# Altium schematic symbol library Schlib1.SchLib: 3 symbols
Pins are listed as number, name and electrical type; pins without a type are passive.

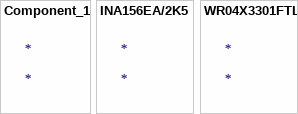
[diagram p0: symbols Component_1 to WR04X3301FTL]

## Component_1
designator *

## INA156EA/2K5
designator *
Instrumentation Amplifier, 1 Func, 9000uV Offset-Max, 0.55MHz Band Width, CMOS, PDSO8; Manufacturer: Texas Instruments; Manufacturer Part Number: INA156EA/2K5; Package Body Material: Plastic; Average Bias Current-Max (IIB): 10pA; Bandwidth (3dB)-Nom: 550kHz; Common Mode Rejection Ratio-Min: 65dB; Input Offset Voltage-Max: 9mV; Non-linearity-Max: 0.015%; Channels: 1; Package Equivalence Code: TSSOP8,.19; Power Supplies: 3/5V; Slew Rate: 6.5V/µs; Max Supply Current: 3.2mA; Supply Voltage Limit-Max: 7.5V; Nominal Supply Voltage: 5V; Voltage Gain-Max: 50; Voltage Gain-Min: 10; Qualification Status: Not Qualified; Supplier: Digi-Key; Supplier Part Number: INA156EA/2K5-ND; RoHS: Yes; Category: Amplifiers - Op Amps, Buffer, Instrumentation; Pricing: 2500=1.48972, 5000=1.43372 (USD); Case/Package: TSSOP; Pins: 8; Package Shape: Square; Terminal Finish: Nickel; Min Operating Temperature: -55°C; Max Operating Temperature: 125°C; JESD-609 Code: e4; Amplifier Type: INSTRUMENTATION AMPLIFIER; Input Offset Current-Max (IIO): 10pA; JESD-30 Code: S-PDSO-G8; Moisture Sensitivity Level: 2; Package Style: SMALL OUTLINE, THIN PROFILE, SHRINK PITCHMeter; Peak Reflow Temperature (Cel): 260°C; Surface Mount: Yes; Technology: CMOS; Terminal Form: Gull Wing; Terminal Position: DUAL; Voltage Gain-Nom: 10; Length: 3mm; Width: 3mm; Height - Seated (Max): 1.1mm; Terminal Pitch: 0.65mm; Temperature Grade: MILITARY; Reach SVHC Compliant: Yes; RoHS Compliant: Yes; ComponentLink1URL: https://www.ti.com:443/lit/ds/symlink/ina156.pdf?src-supplier=IHS+Markit; ComponentLink1Description: https://www.ti.com:443/lit/ds/symlink/ina156.pdf?src-supplier=IHS+Markit; ComponentLink2URL: https://datasheet.ciiva.com/1814/ina156-1814818.pdf?src-supplier=Digi-Key; ComponentLink2Description: https://datasheet.ciiva.com/1814/ina156-1814818.pdf?src-supplier=Digi-Key; ComponentLink3URL: https://datasheet.ciiva.com/2977/ina156-2977894.pdf?src-supplier=Avnet; ComponentLink3Description: https://datasheet.ciiva.com/2977/ina156-2977894.pdf?src-supplier=Avnet

## WR04X3301FTL
designator *
Fixed Resistor, Metal Glaze/thick Film, 0.0625W, 3300ohm, 50V, 1% +/-Tol, 100ppm/Cel, Surface Mount, 0402; Manufacturer: Walsin Technologies; Manufacturer Part Number: WR04X3301FTL; Additional Feature: LASER TRIMMABLE; Power: 62.5mW; Rated Temperature: 70°C; Value: 3.3kR; Temperature Coefficient: 100ppm/°C; Package Height: 0.35mm; Package Length: 1mm; Package Width: 0.5mm; Supplier: Digi-Key; Supplier Part Number: 1292-WR04X3301FTLCT-ND; RoHS: Yes; Category: Chip SMD Resistors; Stock: 55285; Pricing: 1=0.1, 10=0.01, 50=0.0032, 100=0.0024, 500=0.00146, 1000=0.00107, 5000=0.00077 (USD); Mounting Technology: Surface Mount; Pins: 2; Package Shape: Rectangular; Case/Package: 0402; Terminal Finish: Nickel; Min Operating Temperature: -55°C; Max Operating Temperature: 155°C; Tolerance: 1%; JESD-609 Code: e3; Resistor Type: FIXED RESISTOR; Construction: Chip; Package Style: SMTMeter; Packaging: Tape and Reel; Technology: METAL GLAZE/THICK FILM; Termination: Wraparound; Working Voltage: 50V; Reach SVHC Compliant: Yes; RoHS Compliant: Yes; ComponentLink1URL: https://datasheet.ciiva.com:443/pdfs/VipMasterIC/IC/WATC/WATC-S-A0005256878/WATC-S-A0005256878-1.pdf?src-supplier=IHS+Markit; ComponentLink1Description: https://datasheet.ciiva.com:443/pdfs/VipMasterIC/IC/WATC/WATC-S-A0005256878/WATC-S-A0005256878-1.pdf?src-supplier=IHS+Markit; ComponentLink2URL: http://www.farnell.com/datasheets/1960319.pdf?src-supplier=Farnell; ComponentLink2Description: http://www.farnell.com/datasheets/1960319.pdf?src-supplier=Farnell; ComponentLink3URL: https://www.verical.com/server-webapp/html/getDatasheet?partID=414449&src-supplier=Verical; ComponentLink3Description: https://www.verical.com/server-webapp/html/getDatasheet?partID=414449&src-supplier=Verical; ComponentLink4URL: https://datasheet.octopart.com/WR04X3301FTL-Walsin-Technologies-datasheet-48038251.pdf?src-supplier=Element14; ComponentLink4Description: https://datasheet.octopart.com/WR04X3301FTL-Walsin-Technologies-datasheet-48038251.pdf?src-supplier=Element14; ComponentLink5URL: http://www.farnell.com/datasheets/1960319.pdf?src-supplier=Element14; ComponentLink5Description: http://www.farnell.com/datasheets/1960319.pdf?src-supplier=Element14; ComponentLink6URL: https://datasheet.octopart.com/WR04X3301FTL-Walsin-Technologies-datasheet-12511171.pdf?src-supplier=Future+Electronics; ComponentLink6Description: https://datasheet.octopart.com/WR04X3301FTL-Walsin-Technologies-datasheet-12511171.pdf?src-supplier=Future+Electronics; ComponentLink7URL: https://datasheet.octopart.com/WR04X3301FTL-Walsin-Technologies-datasheet-128065753.pdf?src-supplier=TECHDesign; ComponentLink7Description: https://datasheet.octopart.com/WR04X3301FTL-Walsin-Technologies-datasheet-128065753.pdf?src-supplier=TECHDesign